# Altium footprint library lattepanda_new.PcbLib: 1 footprints
Each footprint in its own frame and in the unit in brackets; x right, y up, seen from the top. Pads: shape width x height; smd on the part's side, far side on the other; paste and mask are expansions set on the pad; w line width, h text height; cw(c..) or ccw(c..) is an arc to the next point about the centre after c.
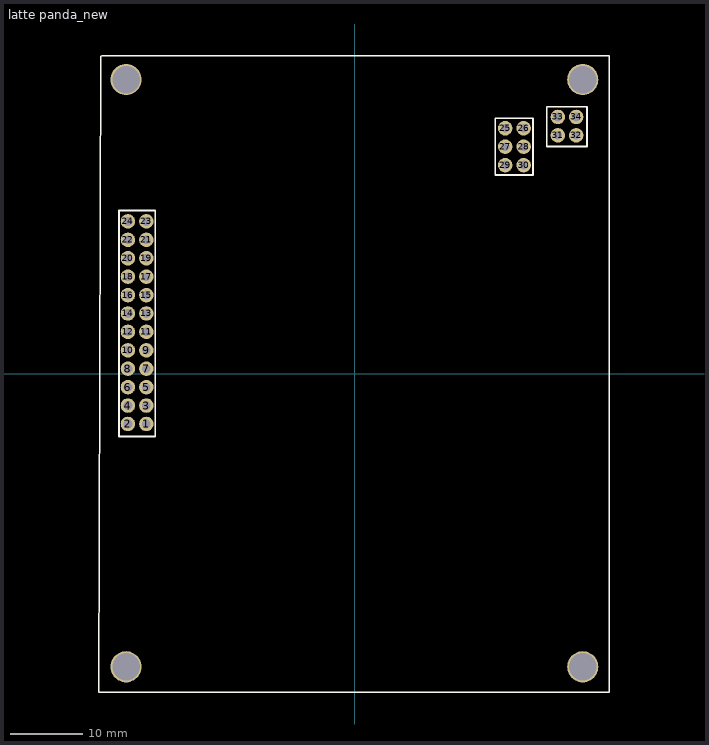
[diagram p0: the footprint, top view; thin cyan lines are the x and y axes]

## latte panda_new [mm]
pads (38):
  round 2 hole 1.2 paste+0 mask+0.051: 1(-28.73,-6.96) 2(-31.27,-6.96) 3(-28.73,-4.42) 4(-31.27,-4.42) 5(-28.73,-1.88) 6(-31.27,-1.88) 7(-28.73,0.66) 8(-31.27,0.66) 9(-28.73,3.2) 10(-31.27,3.2) 11(-28.73,5.74) 12(-31.27,5.74) 13(-28.73,8.28) 14(-31.27,8.28) 15(-28.73,10.82) 16(-31.27,10.82) 17(-28.73,13.36) 18(-31.27,13.36) 19(-28.73,15.9) 20(-31.27,15.9) 21(-28.73,18.44) 22(-31.27,18.44) 23(-28.73,20.98) 24(-31.27,20.98)
  round 2 hole 1.2: 25(20.77,33.83) 26(23.31,33.83) 27(20.77,31.29) 28(23.31,31.29) 29(20.77,28.75) 30(23.31,28.75) 31(28.03,32.85) 32(30.57,32.85) 33(28.03,35.39) 34(30.57,35.39)
  round 4.3 hole 3.8 unplated paste+0: ""(-31.53,-40.46) ""(-31.53,40.54) ""(31.47,-40.46) ""(31.47,40.54)
Top Overlay:
  lines w0.254: -35.03,43.75 -35.299,-43.96 35.127,-43.96 35.127,43.823 -34.85,43.823 ; -32.5,-8.7 -27.5,-8.7 -27.5,22.5 -32.5,22.5 -32.5,-8.7 ; 19.4,27.4 24.6,27.4 24.6,35.2 19.4,35.2 19.4,27.4 ; 26.5,31.3 32.05,31.3 32.05,36.8 26.5,36.8 26.5,31.3